# Altium footprint library libysk_connectors.PcbLib: 10 footprints
Each footprint in its own frame and in the unit in brackets; x right, y up, seen from the top. Pads: shape width x height; smd on the part's side, far side on the other; paste and mask are expansions set on the pad; w line width, h text height; cw(c..) or ccw(c..) is an arc to the next point about the centre after c.
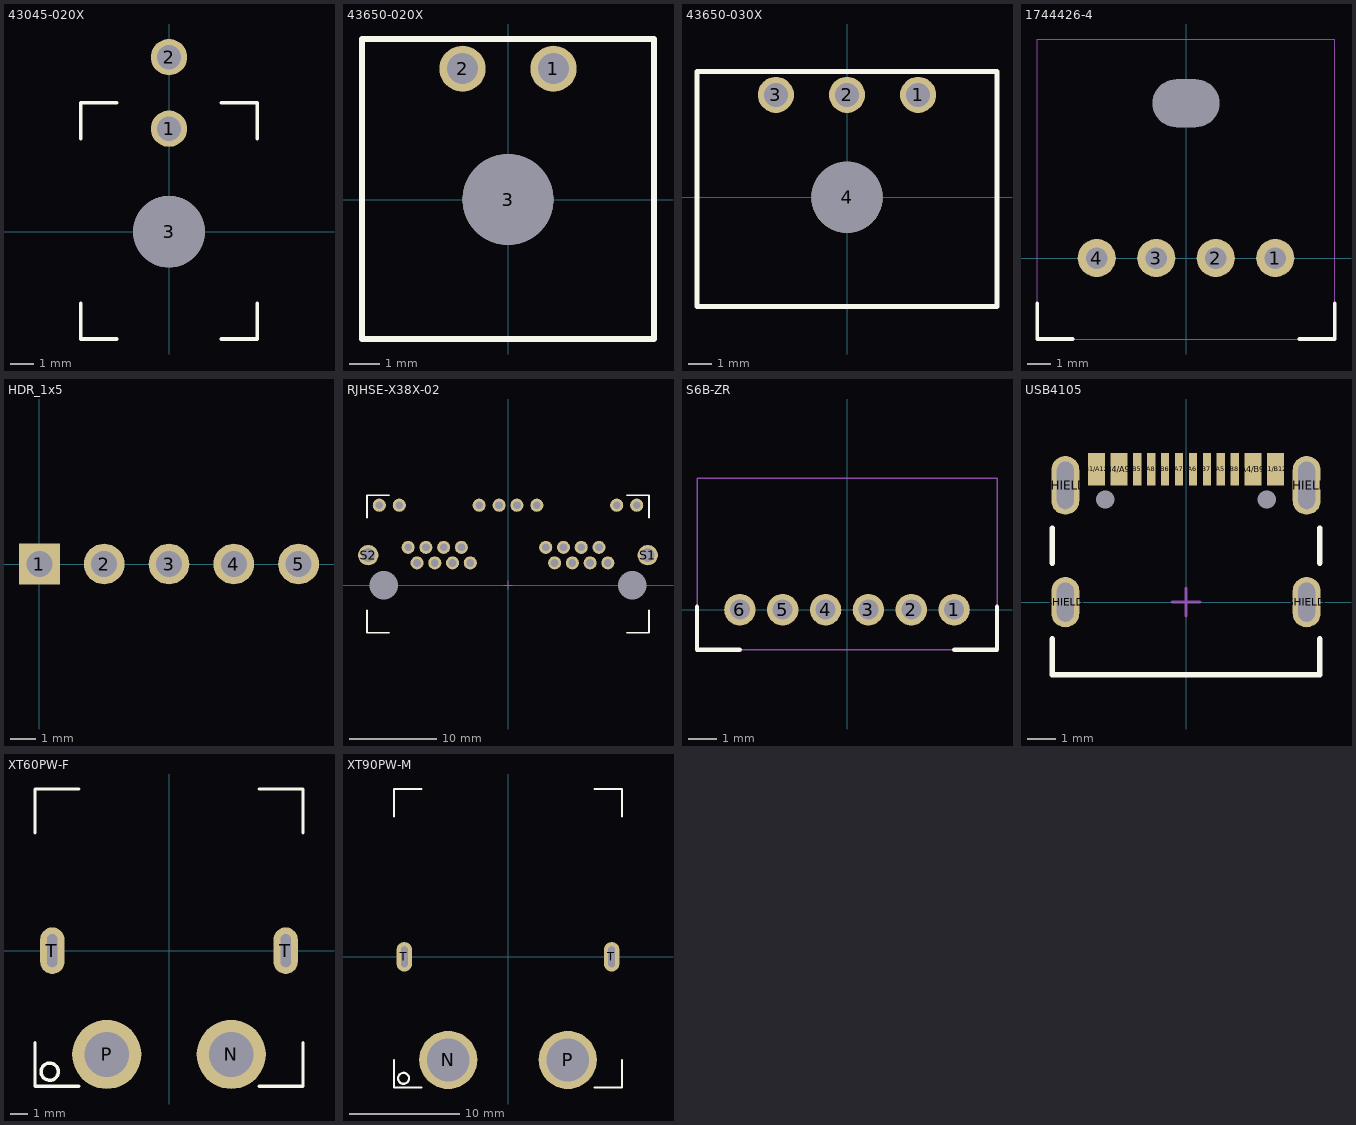
[diagram p0: the footprints below, top view; thin cyan lines are the x and y axes]

## 43045-020X [mm] "Molex Micro-Fit 3.0, 2POS, R/A w/Pegs, Dual row"
pads (3):
  round 1.524 hole 1.02: 1(0,4.32) 2(0,7.32)
  round 3 hole 3 unplated paste+0 mask+0: 3(0,0)
Top Overlay:
  lines w0.15: -3.7,-3 -3.7,-4.5 -2.2,-4.5 ; -3.7,3.9 -3.7,5.4 -2.2,5.4 ; 2.2,-4.5 3.7,-4.5 3.7,-3 ; 2.2,5.4 3.7,5.4 3.7,3.9
3D body "430450200_colored.stp": height 8.77, standoff -3.18, extent -3.575,-4.6 3.575,7.64

## 43650-020X [mm] "Molex Micro-Fit 3.0, 2POS, R/A w/Pegs, Single row"
pads (3):
  round 1.524 hole 1.02: 1(1.5,4.32) 2(-1.5,4.32)
  round 3 hole 3 unplated paste+0 mask+0: 3(0,0)
Top Overlay:
  lines w0.2: -4.825,-4.6 -4.825,5.3 4.825,5.3 4.825,-4.6 -4.825,-4.6
3D body "436500200.stp": height 5.57, standoff -3.34, extent -4.825,-4.6 4.825,5.3

## 43650-030X [mm] "Molex Micro-Fit 3.0, 2POS, R/A w/Pegs, Single row"
pads (4):
  round 1.524 hole 1.02: 1(3,4.32) 2(0,4.32) 3(-3,4.32)
  round 3 hole 3 unplated paste+0 mask+0: 4(0,0)
Top Overlay:
  lines w0.2: -6.325,-4.6 6.325,-4.6 6.325,5.3 -6.325,5.3 -6.325,-4.6
3D body "436500300.stp": height 5.57, standoff -3.34, extent -6.325,-4.6 6.325,5.3

## 1744426-4 [mm] "CON, HEADER, EP2.5, R/A"
pads (5):
  round 1.6 hole 0.9 paste+0: 1(3.75,0) 2(1.25,0) 3(-1.25,0) 4(-3.75,0)
  round 0 hole 2 slot 2.8 at 0 deg unplated paste+0: 5(0,6.5)
Top Overlay:
  lines w0.15: -6.25,-1.9 -6.25,-3.4 -4.75,-3.4 ; 4.75,-3.4 6.25,-3.4 6.25,-1.9
Top Courtyard:
  lines w0.05: -6.25,-3.4 6.25,-3.4 6.25,9.2 -6.25,9.2 -6.25,-3.4
3D body "c-1744426-4-d-3d.stp": height 7.6, standoff -3.32, extent -6.25,-3.4 6.25,9.2

## HDR_1x5 [mm] "HDR, single-row, 5 pins"
pads (5):
  rect 1.6x1.6 hole 1.02 paste+0 mask+0: 1(0,0)
  round 1.6 hole 1.02 paste+0 mask+0: 2(2.54,0) 3(5.08,0) 4(7.62,0) 5(10.16,0)

## RJHSE-X38X-02 [mm]
pads (28):
  round 1.5 hole 0.89: 1-1(11.43,2.54) 1-2(10.414,4.318) 1-3(9.398,2.54) 1-4(8.382,4.318) 1-5(7.366,2.54) 1-6(6.35,4.318) 1-7(5.334,2.54) 1-8(4.318,4.318) 1-9(14.732,9.144) 1-10(12.446,9.144) 1-11(3.302,9.144) 1-12(1.016,9.144) 2-1(-4.318,2.54) 2-2(-5.334,4.318) 2-3(-6.35,2.54) 2-4(-7.366,4.318) 2-5(-8.382,2.54) 2-6(-9.398,4.318) 2-7(-10.414,2.54) 2-8(-11.43,4.318) 2-9(-1.016,9.144) 2-10(-3.302,9.144) 2-11(-12.446,9.144) 2-12(-14.732,9.144)
  round 0 hole 3.251 unplated: *(-14.224,0) *(14.224,0)
  round 2.337 hole 1.575: S1(16.002,3.429) S2(-16.002,3.429)
Top Overlay:
  lines w0.2: -16.129,-2.921 -16.129,-5.461 -13.589,-5.461 ; -16.129,7.747 -16.129,10.287 -13.589,10.287 ; 13.589,-5.461 16.129,-5.461 16.129,-2.921 ; 13.589,10.287 16.129,10.287 16.129,7.747
Top Courtyard:
  lines w0.05: -0.5,0 0.5,0 0,0 0,-0.5 0,0.5
3D body "615016137721_rev1.stp": height 14.52, standoff -3.5, extent -17.189,-6.095 17.189,10.455

## S6B-ZR [mm]
pads (6):
  round 1.1 hole 0.7 paste+0: 1(3.75,0) 2(2.25,0) 3(0.75,0) 4(-0.75,0) 5(-2.25,0) 6(-3.75,0)
Top Overlay:
  lines w0.15: -5.25,0.1 -5.25,-1.4 -3.75,-1.4 ; 3.75,-1.4 5.25,-1.4 5.25,0.1
Top Courtyard:
  lines w0.05: -5.25,-1.4 5.25,-1.4 5.25,4.6 -5.25,4.6 -5.25,-1.4
3D body "S6B-ZR.STEP": height 3.7, standoff -2.7, extent -5.25,-1.4 5.25,4.6

## USB4105 [mm]
pads (18):
  round 0 hole 0.65 unplated: 4(-2.89,3.68) 4(2.89,3.68)
  rect 0.6x1.15 smd: A1/B12(3.2,4.755) A4/B9(2.4,4.755) B1/A12(-3.2,4.755) B4/A9(-2.4,4.755)
  rect 0.3x1.15 smd: A5(1.25,4.755) A6(0.25,4.755) A7(-0.25,4.755) A8(-1.25,4.755) B5(-1.75,4.755) B6(-0.75,4.755) B7(0.75,4.755) B8(1.75,4.755)
  oval 1x1.8 hole 0.6 slot 1.4 at 90 deg: SHIELD(-4.32,0) SHIELD(4.32,0)
  oval 1x2.1 hole 0.6 slot 1.7 at 90 deg: SHIELD(-4.32,4.18) SHIELD(4.32,4.18)
Top Overlay:
  lines w0.2: -4.79,-1.32 -4.79,-2.6 4.79,-2.6 4.79,-1.32 ; -4.79,1.4 -4.79,2.65 ; 4.79,1.4 4.79,2.65
Top Courtyard:
  lines w0.1: -0.5,0 0.5,0 ; 0,-0.5 0,0.5
3D body "USB4105-15-A.stp": height 3.31, standoff -0.85, extent -4.79,-2.6 4.79,5.108

## XT60PW-F [mm] "CON, 2POS, FEMALE, THT, 30A"
pads (4):
  round 4 hole 2.6: N(3.6,-6) P(-3.6,-6)
  oval 1.4x2.7 hole 1.9 slot 0.6 at 0 deg: T(-6.75,0) T(6.75,0)
Top Overlay:
  circle w0.2: c-6.9,-7 r0.5
  lines w0.2: -7.75,-5.31 -7.75,-7.85 -5.21,-7.85 ; -7.75,6.81 -7.75,9.35 -5.21,9.35 ; 5.21,-7.85 7.75,-7.85 7.75,-5.31 ; 5.21,9.35 7.75,9.35 7.75,6.81
3D body "XT60PW-F.STEP": height 8.4, standoff -2.55, extent -7.75,-7.85 7.75,9.35

## XT90PW-M [mm]
pads (4):
  round 5.3 hole 3.9: N(-5.45,-9.4) P(5.45,-9.4)
  oval 1.4x2.7 hole 1.9 slot 0.6 at 0 deg: T(-9.45,0) T(9.45,0)
Top Overlay:
  circle w0.2: c-9.527,-11.075 r0.5
  lines w0.2: -10.4,-9.4 -10.4,-11.9 -7.9,-11.9 ; -10.4,12.8 -10.4,15.3 -7.9,15.3 ; 7.9,-11.9 10.4,-11.9 10.4,-9.4 ; 7.9,15.3 10.4,15.3 10.4,12.8
3D body "XT90PW-M.step": height 10.1, standoff -2.7, extent -10.35,-11.9 10.35,15.3